# EAGLE library part YAMAHA_V9958 (library 07-Retrocomputing)
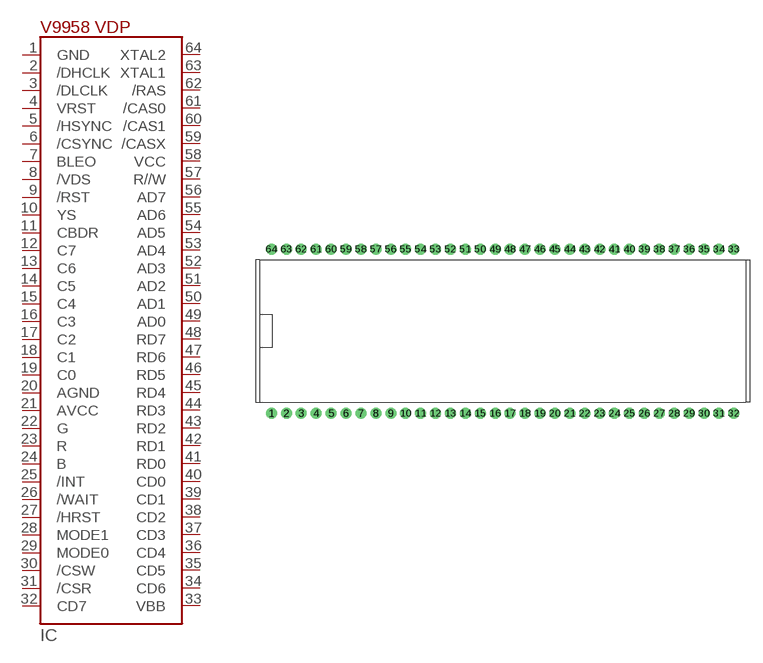
[diagram p13: symbol with the pads of V9958; footprint V9958]

Designator prefix IC

## YAMAHA_V9958  [V9958]
1  GND
2  /DHCLK
3  /DLCLK
4  VRST
5  /HSYNC
6  /CSYNC
7  BLEO
8  /VDS
9  /RST
10  YS
11  CBDR
12  C7
13  C6
14  C5
15  C4
16  C3
17  C2
18  C1
19  C0
20  AGND
21  AVCC
22  G
23  R
24  B
25  /INT
26  /WAIT
27  /HRST
28  MODE1
29  MODE0
30  /CSW
31  /CSR
32  CD7
33  VBB
34  CD6
35  CD5
36  CD4
37  CD3
38  CD2
39  CD1
40  CD0
41  RD0
42  RD1
43  RD2
44  RD3
45  RD4
46  RD5
47  RD6
48  RD7
49  AD0
50  AD1
51  AD2
52  AD3
53  AD4
54  AD5
55  AD6
56  AD7
57  R//W
58  VCC
59  /CASX
60  /CAS1
61  /CAS0
62  /RAS
63  XTAL1
64  XTAL2

## Footprint V9958 (pad centres in mm)
drill 0.8 pad 1.27 round: 1 -27.59,-9.79; 2 -25.81,-9.79; 3 -24.03,-9.79; 4 -22.25,-9.79; 5 -20.47,-9.79; 6 -18.69,-9.79; 7 -16.91,-9.79; 8 -15.13,-9.79; 9 -13.35,-9.79; 10 -11.57,-9.79; 11 -9.79,-9.79; 12 -8.01,-9.79; 13 -6.23,-9.79; 14 -4.45,-9.79; 15 -2.67,-9.79; 16 -0.89,-9.79; 17 0.89,-9.79; 18 2.67,-9.79; 19 4.45,-9.79; 20 6.23,-9.79; 21 8.01,-9.79; 22 9.79,-9.79; 23 11.57,-9.79; 24 13.35,-9.79; 25 15.13,-9.79; 26 16.91,-9.79; 27 18.69,-9.79; 28 20.47,-9.79; 29 22.25,-9.79; 30 24.03,-9.79; 31 25.81,-9.79; 32 27.59,-9.79; 33 27.59,9.79; 34 25.81,9.79; 35 24.03,9.79; 36 22.25,9.79; 37 20.47,9.79; 38 18.69,9.79; 39 16.91,9.79; 40 15.13,9.79; 41 13.35,9.79; 42 11.57,9.79; 43 9.79,9.79; 44 8.01,9.79; 45 6.23,9.79; 46 4.45,9.79; 47 2.67,9.79; 48 0.89,9.79; 49 -0.89,9.79; 50 -2.67,9.79; 51 -4.45,9.79; 52 -6.23,9.79; 53 -8.01,9.79; 54 -9.79,9.79; 55 -11.57,9.79; 56 -13.35,9.79; 57 -15.13,9.79; 58 -16.91,9.79; 59 -18.69,9.79; 60 -20.47,9.79; 61 -22.25,9.79; 62 -24.03,9.79; 63 -25.81,9.79; 64 -27.59,9.79